# Altium schematic symbol library INA125UA.SchLib: 1 symbol
Pins are listed as number, name and electrical type; pins without a type are passive.

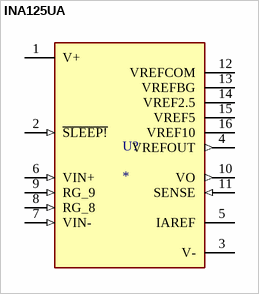
[diagram p0: symbol INA125UA]

## INA125UA
designator U?
Instrumentation Amplifier with Precision Voltage Reference 16-SOIC; MP: INA125UA; Price: None; Value: *; Availability: Unavailable; Package: None
footprint SOIC127P600X175-16N
pins: 1 V+ (power), 2 ~{SLEEP!} (in), 3 V- (power), 4 VREFOUT (out), 5 IAREF, 6 VIN+ (in), 7 VIN- (in), 8 RG_8 (in), 9 RG_9 (in), 10 VO (out), 11 SENSE (in), 12 VREFCOM, 13 VREFBG, 14 VREF2.5, 15 VREF5, 16 VREF10